# Altium integrated library LQW15AN15NH00D.IntLib: 1 symbol
Pins are listed as number, name and electrical type; pins without a type are passive.

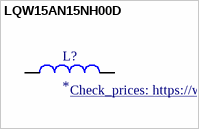
[diagram p0: symbol LQW15AN15NH00D]

## LQW15AN15NH00D
designator L?
Inductor with Inductance: 15nH Tol. +/-3%, Package: 0402 (1005); MP: LQW15AN15NH00D; MF: Murata; Price: None; SnapEDA_Link: https://www.snapeda.com/parts/LQW15AN15NH00D/Murata%20Electronics%20North%20America/view-part/1499752/?ref=snap; Availability: Good; Mouser-Purchase-URL: https://snapeda.com/shop?store=Mouser&id=1499752; Value: *; DigiKey-Purchase-URL: https://snapeda.com/shop?store=DigiKey&id=1499752; Package: 1006 Murata; Check_prices: https://www.snapeda.com/parts/LQW15AN15NH00D/Murata%20Electronics%20North%20America/view-part/1499752/?ref=eda
footprint INDC1006X60N
pins: 1, 2